# Altium schematic symbol library HydrogreenSchematicLibrary.SchLib: 60 symbols (part 1 of 4)
Pins are listed as number, name and electrical type; pins without a type are passive.

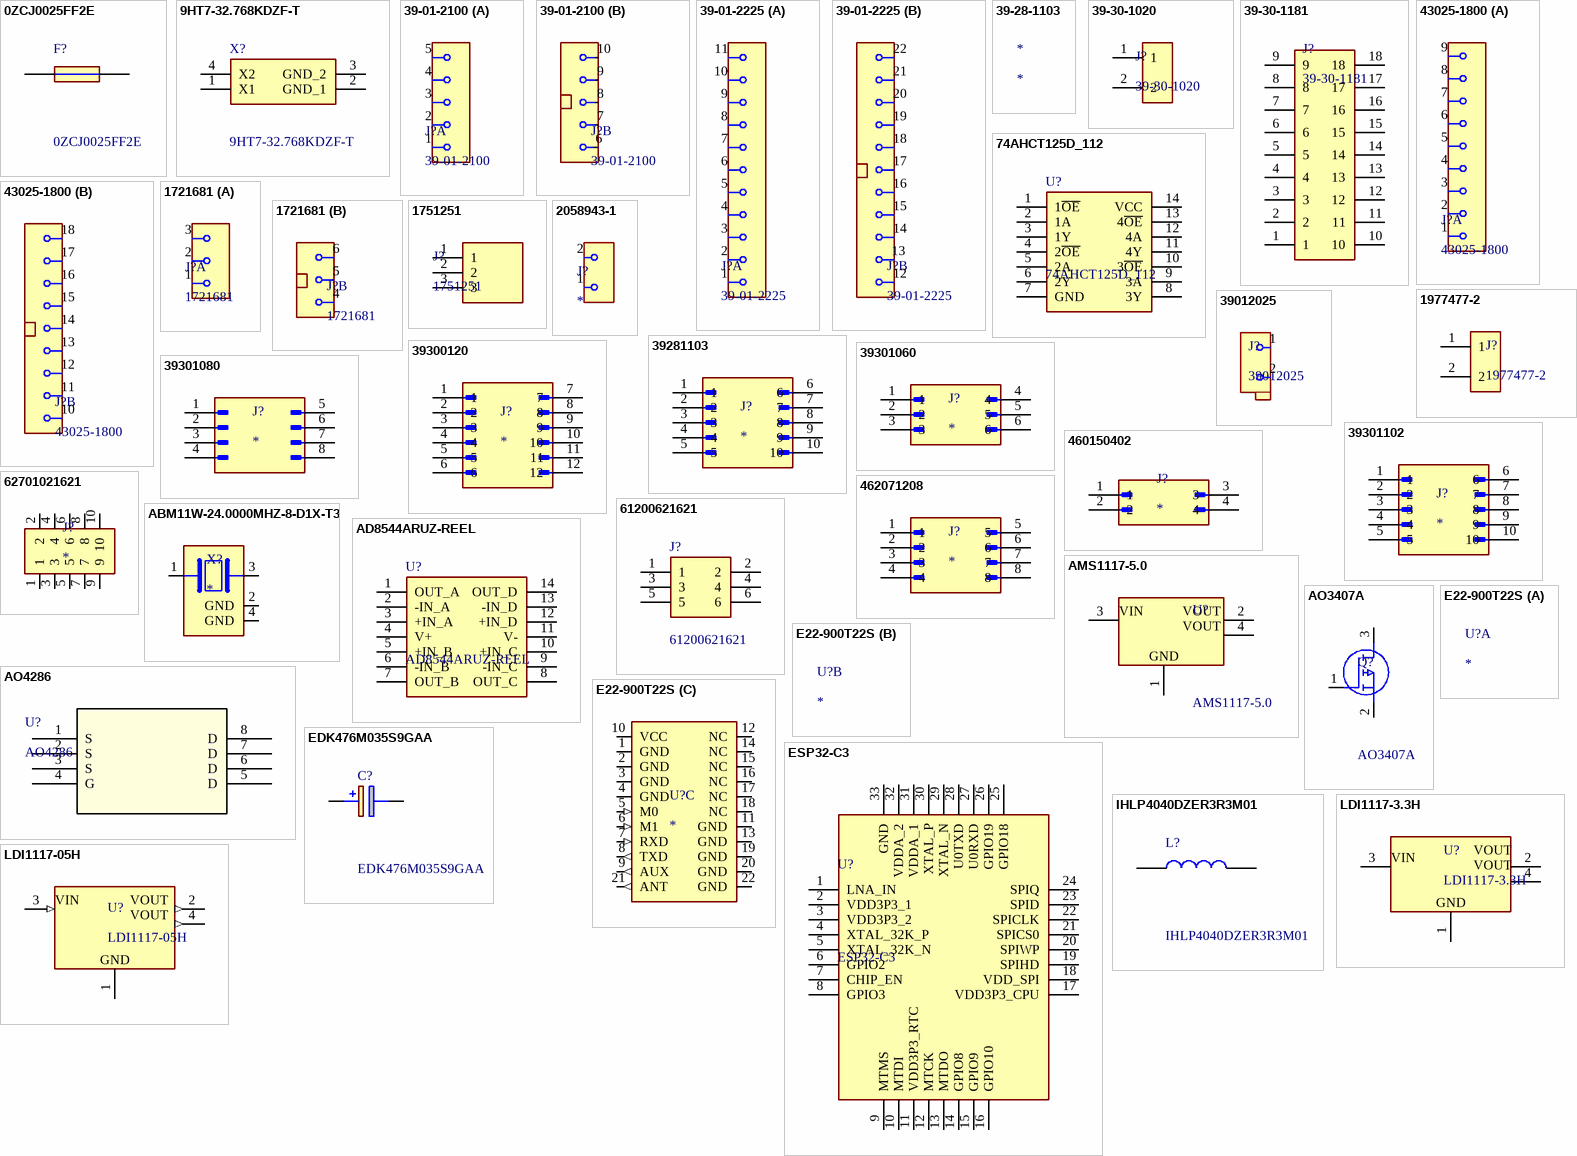
[diagram p0: symbols 0ZCJ0025FF2E to LDI1117-05H]

## 0ZCJ0025FF2E
designator F?
BEL FUSE - CIRCUIT PROTECTION - 0ZCJ0025FF2E - FUSE, RESETTABLE PTC, 16VDC, 0.25A, SMD; Manufacturer_Name: Bel Circuit Protection; Geometry.Height: 0.75mm; Mouser Part Number: *; Mouser Price/Stock: *; Manufacturer_Part_Number: 0ZCJ0025FF2E; Datasheet Link: https://componentsearchengine.com/Datasheets/2/0ZCJ0025FF2E.pdf
footprint 0ZCJ0025FF2E
pins: 1, 2

## 9HT7-32.768KDZF-T
designator X?
Parallel - Fundamental Quartz Crystal, 0.032768MHz Nom; Manufacturer_Name: TXC CORPORATION; Manufacturer: TXC; Geometry.Height: 1.4mm; ESR (Equivalent Series Resistance): 65kΩ; Frequency: 32.768kHz; Frequency Tolerance: 0.002%; Load Capacitance: 12.5pF; Manufacturer_Part_Number: 9HT7-32.768KDZF-T; Mouser Part Number: 717-9HT7-32.768KDZFT; Mouser Price/Stock: https://www.mouser.co.uk/ProductDetail/TXC-Corporation/9HT7-32.768KDZF-T?qs=MEJ8UTjcHDlobjP3Uu4Bsg%3D%3D; Arrow Part Number: 9HT7-32.768KDZF-T; Arrow Price/Stock: https://www.arrow.com/en/products/9ht7-32.768kdzf-t/txc-corporation?region=nac; Datasheet Link: https://componentsearchengine.com/Datasheets/2/9HT7-32.768KDZF-T.pdf; Supplier: Farnell; Supplier Part Number: 2819319; Manufacturer Part Number: 9HT7-32.768KDZF-T; RoHS: Compliant; Category: Crystals; Stock: 7957; Case/Package: SMD/SMT; Height: 508µm; Lead Free: Lead Free; Length: 1.4mm; Lifecycle Status: Production; Max Operating Temperature: 85°C; Min Operating Temperature: -40°C; Mounting Technology: Surface Mount; Packaging: Tape & Reel; REACH SVHC: No; Schedule B: 8541600080, 8541600080|8541600080|8541600080|8541600080|8541600080|8541600080|8541600080|8541600080|8541600080|8541600080|8541600080|8541600080|8541600080|8541600080|8541600080|8541600080|8541600080|8541600080|8541600080|8541600080|8541600080|8541600080|8541600080|85; Termination: SMD/SMT; Tolerance: 0.002%; Width: 1.397mm; ComponentLink1URL: https://datasheet.octopart.com:443/9HT7-32.768KDZF-T-TXC-datasheet-21225340.pdf?src-supplier=element14+APAC; ComponentLink1Description: https://datasheet.octopart.com:443/9HT7-32.768KDZF-T-TXC-datasheet-21225340.pdf?src-supplier=element14+APAC; ComponentLink2URL: https://datasheet.octopart.com:443/9HT7-32.768KDZF-T-TXC-datasheet-181441158.pdf?src-supplier=Newark; ComponentLink2Description: https://datasheet.octopart.com:443/9HT7-32.768KDZF-T-TXC-datasheet-181441158.pdf?src-supplier=Newark; ComponentLink3URL: https://datasheet.octopart.com:443/9HT7-32.768KDZF-T-TXC-datasheet-188932442.pdf?src-supplier=TME; ComponentLink3Description: https://datasheet.octopart.com:443/9HT7-32.768KDZF-T-TXC-datasheet-188932442.pdf?src-supplier=TME
footprint 9HT732768KDZFT
pins: 1 X1, 2 GND_1, 3 GND_2, 4 X2

## 39-01-2100
designator J?
Power Connector, 10 Contact(s), Female, Crimp Terminal, Receptacle; Manufacturer: Molex; Connector Type: Power,Rectangular; Option: General Purpose; Filter Feature: No; Throw Configuration: S0P10; Contact Resistance: 10mR; Contact Style: SQ PIN-SKT; Dielectric Withstanding Voltage (AC): 1.5kV; Insertion Force-Max: 14.6784N; Insulation Resistance: 1GR; Mating Information: MULTIPLE MATING PARTS AVAILABLE; Number Of Connectors: 1; Number of Contacts: 10; Body Breadth: 0.46inch; Body Depth: 0.77inch; Body Length: 0.874inch; Mounting Option 1: LOCKING; Reference Standard: UL; Reliability: COMMERCIAL; Supplier: Farnell; Supplier Part Number: 2751634; Manufacturer Part Number: 39-01-2100; RoHS: Yes; Category: Headers and Wire Housings; Stock: 27370; Mounting Technology: Cable; Contact Finish - Mating: NOT SPECIFIED; Insulation Material: Nylon; Insulation Color: Natural; Shell Material: POLYAMIDE66; Body/Shell Style: RECEPTACLE; Mounting Style: STRAIGHT; Contact Gender: Female; Empty Shell: No; Mixed Contacts: No; Termination: Crimp; Flammability Rating: UL94 V-2; DIN Conformance: No; IEC Conformance: No; MIL Conformance: No; Reach SVHC Compliant: Yes; RoHS Compliant: Yes; ComponentLink1URL: https://datasheet.ciiva.com:443/pdfs/VipMasterIC/IC/MOLE/MOLE-S-A0003536895/MOLE-S-A0003534376-1.pdf?src-supplier=IHS+Markit; ComponentLink1Description: https://datasheet.ciiva.com:443/pdfs/VipMasterIC/IC/MOLE/MOLE-S-A0003536895/MOLE-S-A0003534376-1.pdf?src-supplier=IHS+Markit; ComponentLink2URL: https://datasheet.ciiva.com/19473/1968566-19473030.pdf?src-supplier=Jameco; ComponentLink2Description: https://datasheet.ciiva.com/19473/1968566-19473030.pdf?src-supplier=Jameco; ComponentLink3URL: https://datasheet.ciiva.com/16127/0039012100-crimp-housings-16127171.pdf?src-supplier=Onlinecomponents.com; ComponentLink3Description: https://datasheet.ciiva.com/16127/0039012100-crimp-housings-16127171.pdf?src-supplier=Onlinecomponents.com; ComponentLink4URL: https://datasheet.ciiva.com/11740/0900766b80460d92-11740879.pdf?src-supplier=Rs; ComponentLink4Description: https://datasheet.ciiva.com/11740/0900766b80460d92-11740879.pdf?src-supplier=Rs; ComponentLink5URL: https://datasheet.ciiva.com/5150/0039012100-crimp-housings-140011-5150159.pdf?src-supplier=Mouser; ComponentLink5Description: https://datasheet.ciiva.com/5150/0039012100-crimp-housings-140011-5150159.pdf?src-supplier=Mouser; ComponentLink6URL: https://datasheet.ciiva.com/1446/1923999-1446502.pdf?src-supplier=Element14; ComponentLink6Description: https://datasheet.ciiva.com/1446/1923999-1446502.pdf?src-supplier=Element14; ComponentLink7URL: https://datasheet.ciiva.com/10392/0039012100-crimp-housings-10392202.pdf?src-supplier=Avnet; ComponentLink7Description: https://datasheet.ciiva.com/10392/0039012100-crimp-housings-10392202.pdf?src-supplier=Avnet; ComponentLink8URL: https://datasheet.ciiva.com/30093/107550039012100-crimp-housings-30093659.pdf?src-supplier=Onlinecomponents.com; ComponentLink8Description: https://datasheet.ciiva.com/30093/107550039012100-crimp-housings-30093659.pdf?src-supplier=Onlinecomponents.com; ComponentLink9URL: https://datasheet.ciiva.com/18453/70190738-18453660.pdf?src-supplier=Allied+Electronics; ComponentLink9Description: https://datasheet.ciiva.com/18453/70190738-18453660.pdf?src-supplier=Allied+Electronics
footprint 39-01-2100
part A pins: 1, 2, 3, 4, 5
part B pins: 6, 7, 8, 9, 10

## 39-01-2225
designator J?
Power Connector, 22 Contact(s), Female, Crimp Terminal, Receptacle; Manufacturer: Molex; Connector Type: Power,Rectangular; Throw Configuration: S0P22; Option: General Purpose; Contact Resistance: 10mR; Contact Style: SQ PIN-SKT; Dielectric Withstanding Voltage (AC): 1.5kV; Empty Shell: No; Insertion Force-Max: 14.6784N; Insulation Resistance: 1GR; Mating Information: MULTIPLE MATING PARTS AVAILABLE; Number Of Connectors: 1; Number of Contacts: 22; Body Breadth: 0.46inch; Body Depth: 0.77inch; Body Length: 1.866inch; Mounting Option 1: LOCKING; Reference Standard: UL; Reliability: COMMERCIAL; Supplier: Rs; Supplier Part Number: 6704562; Manufacturer Part Number: 39-01-2225; RoHS: Yes; Category: Connectors; Stock: 520; Mounting Technology: Cable; Contact Finish - Mating: NOT SPECIFIED; Insulation Color: Natural; Insulation Material: Nylon; Shell Material: POLYAMIDE66; Body/Shell Style: RECEPTACLE; Contact Gender: Female; Filter Feature: No; Mixed Contacts: No; Mounting Style: STRAIGHT; Termination: Crimp; Flammability Rating: UL94 V-0; Reach SVHC Compliant: Yes; RoHS Compliant: Yes; DIN Conformance: No; IEC Conformance: No; MIL Conformance: No; ComponentLink1URL: https://datasheet.ciiva.com:443/pdfs/VipMasterIC/IC/MOLE/MOLE-S-A0003536895/MOLE-S-A0003534376-1.pdf?src-supplier=IHS+Markit; ComponentLink1Description: https://datasheet.ciiva.com:443/pdfs/VipMasterIC/IC/MOLE/MOLE-S-A0003536895/MOLE-S-A0003534376-1.pdf?src-supplier=IHS+Markit; ComponentLink2URL: https://datasheet.ciiva.com/19473/1968662-19473339.pdf?src-supplier=Jameco; ComponentLink2Description: https://datasheet.ciiva.com/19473/1968662-19473339.pdf?src-supplier=Jameco; ComponentLink3URL: https://datasheet.ciiva.com/10401/0039012225-crimp-housings-10401042.pdf?src-supplier=Avnet; ComponentLink3Description: https://datasheet.ciiva.com/10401/0039012225-crimp-housings-10401042.pdf?src-supplier=Avnet; ComponentLink4URL: https://datasheet.ciiva.com/16127/983660039012225-crimp-housings-16127278.pdf?src-supplier=Onlinecomponents.com; ComponentLink4Description: https://datasheet.ciiva.com/16127/983660039012225-crimp-housings-16127278.pdf?src-supplier=Onlinecomponents.com; ComponentLink5URL: https://datasheet.ciiva.com/15217/getdatasheetpartid-296930-15217964.pdf?src-supplier=Verical; ComponentLink5Description: https://datasheet.ciiva.com/15217/getdatasheetpartid-296930-15217964.pdf?src-supplier=Verical
footprint 39-01-2225
part A pins: 1, 2, 3, 4, 5, 6, 7, 8, 9, 10, 11
part B pins: 12, 13, 14, 15, 16, 17, 18, 19, 20, 21, 22

## 39-28-1103
designator *
MOLEX 39-28-1103 Header 2 Row 180° w/o PCB Lock 10p 94V-2 Tin Plating w/o Drain Holes; Manufacturer Lifecycle Status: ACTIVE; Approvals: CSA, TUV, UL; Connector Type: Power, Rectangular; Contact Resistance: 10mΩ; Current Rating: 7A; Dielectric Material: Polyamide; Gender: Male; Glow Wire Compliant: Non-compliant; Insulation Resistance: 1GΩ; Max Current Rating: 3A; Max Voltage Rating (DC): 600.6kV; Number of Circuits: 8; Number of Contacts: 10; Operating Force: 6.672N; Pitch: 4.2mm; Plating Thickness: 889nm; Row Spacing: 5.5118mm; Voltage Rating: 600V; Working Voltage: 250V; Supplier: RS; Supplier Part Number: 4841928P; Manufacturer: Molex; Manufacturer Part Number: 39-28-1103; RoHS: Compliant; Category: Headers and Wire Housings; Stock: 2889; China RoHS: Compliant; Color: Natural, Clear; Contact Gender: Male; Contact Material: Brass; Contact Plating: Tin; Country of Origin: PR; Depth: 9.39mm; Flammability Rating: UL94 V-2; Halogen Free: Low Halogen; Height: 13.1mm; Housing Material: Nylon; Lead Free: Lead Free; Lead Pitch: 4.2mm; Length: 101.19mm; Lifecycle Status: Production; Max Operating Temperature: 105°C; Min Operating Temperature: -40°C; Mounting Technology: Through Hole; Pins: 10; Number of Poles: 10; Number of Positions: 10; Number of Rows: 2; Orientation: Vertical; Packaging: Bulk; Plating: Tin; Radiation Hardening: No; REACH SVHC: Yes; Schedule B: 8536694040, 8536694040|8536694040|8536694040|8536694040|8536694040; Terminal Pitch: 4.191mm; Termination: Solder; Voltage Rating (AC): 600V; Voltage Rating (DC): 600V; ComponentLink1URL: https://datasheet.octopart.com:443/0039281103-Molex-datasheet-180777537.pdf?src-supplier=IHS; ComponentLink1Description: https://datasheet.octopart.com:443/0039281103-Molex-datasheet-180777537.pdf?src-supplier=IHS; ComponentLink2URL: https://datasheet.octopart.com:443/39-28-1103-Molex-datasheet-120074126.pdf?src-supplier=IHS; ComponentLink2Description: https://datasheet.octopart.com:443/39-28-1103-Molex-datasheet-120074126.pdf?src-supplier=IHS; ComponentLink3URL: https://datasheet.octopart.com:443/39-28-1103-Molex-datasheet-11519118.pdf?src-supplier=Molex; ComponentLink3Description: https://datasheet.octopart.com:443/39-28-1103-Molex-datasheet-11519118.pdf?src-supplier=Molex; ComponentLink4URL: https://datasheet.octopart.com:443/039281103-Molex-datasheet-8335264.pdf?src-supplier=Upverter; ComponentLink4Description: https://datasheet.octopart.com:443/039281103-Molex-datasheet-8335264.pdf?src-supplier=Upverter; ComponentLink5URL: https://datasheet.octopart.com:443/39-28-1103-Molex-datasheet-13784987.pdf?src-supplier=Sager+Electronics; ComponentLink5Description: https://datasheet.octopart.com:443/39-28-1103-Molex-datasheet-13784987.pdf?src-supplier=Sager+Electronics; ComponentLink6URL: https://datasheet.octopart.com:443/39-28-1103-Molex-datasheet-154749138.pdf?src-supplier=Master+Electronics; ComponentLink6Description: https://datasheet.octopart.com:443/39-28-1103-Molex-datasheet-154749138.pdf?src-supplier=Master+Electronics; ComponentLink7URL: https://datasheet.octopart.com:443/39-28-1103-Molex-datasheet-101582338.pdf?src-supplier=Farnell; ComponentLink7Description: https://datasheet.octopart.com:443/39-28-1103-Molex-datasheet-101582338.pdf?src-supplier=Farnell; ComponentLink8URL: https://datasheet.octopart.com:443/39-28-1103-Molex-datasheet-8486522.pdf?src-supplier=Farnell; ComponentLink8Description: https://datasheet.octopart.com:443/39-28-1103-Molex-datasheet-8486522.pdf?src-supplier=Farnell; ComponentLink9URL: https://datasheet.octopart.com:443/39-28-1103-Molex-datasheet-7626255.pdf?src-supplier=Farnell; ComponentLink9Description: https://datasheet.octopart.com:443/39-28-1103-Molex-datasheet-7626255.pdf?src-supplier=Farnell; ComponentLink10URL: https://datasheet.octopart.com:443/39-28-1103-Molex-datasheet-33002772.pdf?src-supplier=Electro+Sonic; ComponentLink10Description: https://datasheet.octopart.com:443/39-28-1103-Molex-datasheet-33002772.pdf?src-supplier=Electro+Sonic; ComponentLink11URL: https://datasheet.octopart.com:443/39-28-1103-Molex-datasheet-62104106.pdf?src-supplier=Electro+Sonic; ComponentLink11Description: https://datasheet.octopart.com:443/39-28-1103-Molex-datasheet-62104106.pdf?src-supplier=Electro+Sonic; ComponentLink12URL: https://datasheet.octopart.com:443/39-28-1103-Molex-datasheet-27885732.pdf?src-supplier=Electro+Sonic; ComponentLink12Description: https://datasheet.octopart.com:443/39-28-1103-Molex-datasheet-27885732.pdf?src-supplier=Electro+Sonic; ComponentLink13URL: https://datasheet.octopart.com:443/39-28-1103-Molex-datasheet-11879267.pdf?src-supplier=Arrow+Electronics; ComponentLink13Description: https://datasheet.octopart.com:443/39-28-1103-Molex-datasheet-11879267.pdf?src-supplier=Arrow+Electronics; ComponentLink14URL: https://datasheet.octopart.com:443/39-28-1103-Molex-datasheet-140182983.pdf?src-supplier=RS+(Formerly+Allied+Electronics); ComponentLink14Description: https://datasheet.octopart.com:443/39-28-1103-Molex-datasheet-140182983.pdf?src-supplier=RS+(Formerly+Allied+Electronics); ComponentLink15URL: https://datasheet.octopart.com:443/39-28-1103-Molex-datasheet-120148484.pdf?src-supplier=RS+(Formerly+Allied+Electronics); ComponentLink15Description: https://datasheet.octopart.com:443/39-28-1103-Molex-datasheet-120148484.pdf?src-supplier=RS+(Formerly+Allied+Electronics); ComponentLink16URL: https://datasheet.octopart.com:443/39-28-1103-Molex-datasheet-27709973.pdf?src-supplier=RS+(Formerly+Allied+Electronics); ComponentLink16Description: https://datasheet.octopart.com:443/39-28-1103-Molex-datasheet-27709973.pdf?src-supplier=RS+(Formerly+Allied+Electronics); ComponentLink17URL: https://datasheet.octopart.com:443/39-28-1103-Molex-datasheet-9805467.pdf?src-supplier=RS+(Formerly+Allied+Electronics); ComponentLink17Description: https://datasheet.octopart.com:443/39-28-1103-Molex-datasheet-9805467.pdf?src-supplier=RS+(Formerly+Allied+Electronics); ComponentLink18URL: https://datasheet.octopart.com:443/39-28-1103-Molex-datasheet-82184.pdf?src-supplier=RS+(Formerly+Allied+Electronics); ComponentLink18Description: https://datasheet.octopart.com:443/39-28-1103-Molex-datasheet-82184.pdf?src-supplier=RS+(Formerly+Allied+Electronics); ComponentLink19URL: https://datasheet.octopart.com:443/39-28-1103-Molex-datasheet-156091070.pdf?src-supplier=Jameco; ComponentLink19Description: https://datasheet.octopart.com:443/39-28-1103-Molex-datasheet-156091070.pdf?src-supplier=Jameco; ComponentLink20URL: https://datasheet.octopart.com:443/39281103-Molex-datasheet-7831096.pdf?src-supplier=Jameco; ComponentLink20Description: https://datasheet.octopart.com:443/39281103-Molex-datasheet-7831096.pdf?src-supplier=Jameco; ComponentLink21URL: https://datasheet.octopart.com:443/39281103-Molex-datasheet-137316104.pdf?src-supplier=Future+Electronics; ComponentLink21Description: https://datasheet.octopart.com:443/39281103-Molex-datasheet-137316104.pdf?src-supplier=Future+Electronics; ComponentLink22URL: https://datasheet.octopart.com:443/39-28-1103-Molex-datasheet-38190430.pdf?src-supplier=Newark; ComponentLink22Description: https://datasheet.octopart.com:443/39-28-1103-Molex-datasheet-38190430.pdf?src-supplier=Newark; ComponentLink23URL: https://datasheet.octopart.com:443/39-28-1103-Molex-datasheet-21207353.pdf?src-supplier=Newark; ComponentLink23Description: https://datasheet.octopart.com:443/39-28-1103-Molex-datasheet-21207353.pdf?src-supplier=Newark; ComponentLink24URL: https://datasheet.octopart.com:443/39-28-1103-Molex-datasheet-1603.pdf?src-supplier=Newark; ComponentLink24Description: https://datasheet.octopart.com:443/39-28-1103-Molex-datasheet-1603.pdf?src-supplier=Newark; ComponentLink25URL: https://datasheet.octopart.com:443/39-28-1103-Molex-datasheet-10064021.pdf?src-supplier=element14; ComponentLink25Description: https://datasheet.octopart.com:443/39-28-1103-Molex-datasheet-10064021.pdf?src-supplier=element14; ComponentLink26URL: https://datasheet.octopart.com:443/39-28-1103-Molex-datasheet-141243.pdf?src-supplier=DigiKey; ComponentLink26Description: https://datasheet.octopart.com:443/39-28-1103-Molex-datasheet-141243.pdf?src-supplier=DigiKey; ComponentLink27URL: https://datasheet.octopart.com:443/39-28-1103-Molex-datasheet-18519.pdf?src-supplier=TME; ComponentLink27Description: https://datasheet.octopart.com:443/39-28-1103-Molex-datasheet-18519.pdf?src-supplier=TME; ComponentLink28URL: http://sigma.octopart.com:80/16310472/rohs_statement/Molex-39-28-1103.pdf?src-supplier=Compliance+Statements; ComponentLink28Description: http://sigma.octopart.com:80/16310472/rohs_statement/Molex-39-28-1103.pdf?src-supplier=Compliance+Statements; ComponentLink29URL: http://sigma.octopart.com:80/conflict_mineral_statement/Molex-company-72.pdf?src-supplier=Compliance+Statements; ComponentLink29Description: http://sigma.octopart.com:80/conflict_mineral_statement/Molex-company-72.pdf?src-supplier=Compliance+Statements; ComponentLink30URL: http://sigma.octopart.com:80/rohs_statement/Molex-company-73.pdf?src-supplier=Compliance+Statements; ComponentLink30Description: http://sigma.octopart.com:80/rohs_statement/Molex-company-73.pdf?src-supplier=Compliance+Statements; ComponentLink31URL: http://sigma.octopart.com:80/reach_statement/Molex-company-74.pdf?src-supplier=Compliance+Statements; ComponentLink31Description: http://sigma.octopart.com:80/reach_statement/Molex-company-74.pdf?src-supplier=Compliance+Statements

## 39-30-1020
designator J?
Pin Header, Power, 2 Rows, 2 Contacts, Through Hole Right Angle, Mini-Fit Jr. 5569; Manufacturer: Molex; Manufacturer Lifecycle Status: ACTIVE; Approvals: CSA, TUV, UL; Connector Type: Power, Rectangular; Contact Resistance: 10mΩ; Current Rating: 9A; Dielectric Material: Polyamide; Gender: Male; Glow Wire Compliant: Non-compliant; Insulation Resistance: 1GΩ; Number of Circuits: 2; Pitch: 4.2mm; Plating Thickness: 2.54µm; Voltage Rating: 600V; Supplier: RS; Supplier Part Number: 5109837P; Manufacturer Part Number: 39-30-1020; RoHS: Compliant; Category: Headers and Wire Housings; Stock: 13118; China RoHS: Compliant; Color: Natural; Contact Gender: Male; Contact Material: Brass; Contact Plating: Tin; Country of Origin: US; Depth: 13.38mm; ELV: Compliant; Flammability Rating: UL94 V-2; Halogen Free: Low Halogen; Height: 14.76mm; Housing Material: Nylon; Lead Free: Lead Free; Lead Pitch: 4.2mm; Length: 36.07mm; Lifecycle Status: Production; Material: Nylon; Max Operating Temperature: 105°C; Min Operating Temperature: -40°C; Mounting Technology: PCB, Through Hole; Number of Contacts: 2; Pins: 2; Number of Poles: 2; Number of Positions: 2; Number of Rows: 2; Orientation: Right Angle; Radiation Hardening: No; REACH SVHC: Yes; Row Spacing: 4.2mm; Schedule B: 8536694040, 8536694040|8536694040, 8536694040|8536694040|8536694040, 8536694040|8536694040|8536694040|8536694040; Termination: Solder; Voltage Rating (AC): 600V; Voltage Rating (DC): 600V; Working Voltage: 600V; ComponentLink1URL: https://datasheet.octopart.com:443/39-30-1020-Molex-datasheet-120074128.pdf?src-supplier=IHS; ComponentLink1Description: https://datasheet.octopart.com:443/39-30-1020-Molex-datasheet-120074128.pdf?src-supplier=IHS; ComponentLink2URL: https://datasheet.octopart.com:443/039301020-Molex-datasheet-8338717.pdf?src-supplier=Upverter; ComponentLink2Description: https://datasheet.octopart.com:443/039301020-Molex-datasheet-8338717.pdf?src-supplier=Upverter; ComponentLink3URL: https://datasheet.octopart.com:443/39-30-1020-Molex-datasheet-13785309.pdf?src-supplier=Molex; ComponentLink3Description: https://datasheet.octopart.com:443/39-30-1020-Molex-datasheet-13785309.pdf?src-supplier=Molex; ComponentLink4URL: https://sigma.octopart.com:443/15644801/technical_drawing/Molex-39-30-1020.pdf?src-supplier=Molex; ComponentLink4Description: https://sigma.octopart.com:443/15644801/technical_drawing/Molex-39-30-1020.pdf?src-supplier=Molex; ComponentLink5URL: https://datasheet.octopart.com:443/39-30-1020-Molex-datasheet-36854730.pdf?src-supplier=Farnell; ComponentLink5Description: https://datasheet.octopart.com:443/39-30-1020-Molex-datasheet-36854730.pdf?src-supplier=Farnell; ComponentLink6URL: https://datasheet.octopart.com:443/39-30-1020-Molex-datasheet-101582405.pdf?src-supplier=Farnell; ComponentLink6Description: https://datasheet.octopart.com:443/39-30-1020-Molex-datasheet-101582405.pdf?src-supplier=Farnell; ComponentLink7URL: https://datasheet.octopart.com:443/39-30-1020-..-Molex-datasheet-81470918.pdf?src-supplier=Farnell; ComponentLink7Description: https://datasheet.octopart.com:443/39-30-1020-..-Molex-datasheet-81470918.pdf?src-supplier=Farnell; ComponentLink8URL: https://datasheet.octopart.com:443/39-30-1020-Molex-datasheet-14711183.pdf?src-supplier=Farnell; ComponentLink8Description: https://datasheet.octopart.com:443/39-30-1020-Molex-datasheet-14711183.pdf?src-supplier=Farnell; ComponentLink9URL: https://datasheet.octopart.com:443/39-30-1020-Molex-datasheet-10541087.pdf?src-supplier=Farnell; ComponentLink9Description: https://datasheet.octopart.com:443/39-30-1020-Molex-datasheet-10541087.pdf?src-supplier=Farnell; ComponentLink10URL: https://datasheet.octopart.com:443/39301020-Molex-datasheet-514359.pdf?src-supplier=Farnell; ComponentLink10Description: https://datasheet.octopart.com:443/39301020-Molex-datasheet-514359.pdf?src-supplier=Farnell; ComponentLink11URL: https://datasheet.octopart.com:443/39-30-1020-Molex-datasheet-154749331.pdf?src-supplier=Master+Electronics; ComponentLink11Description: https://datasheet.octopart.com:443/39-30-1020-Molex-datasheet-154749331.pdf?src-supplier=Master+Electronics; ComponentLink12URL: https://datasheet.octopart.com:443/39-30-1020-Molex-datasheet-21827347.pdf?src-supplier=Electro+Sonic; ComponentLink12Description: https://datasheet.octopart.com:443/39-30-1020-Molex-datasheet-21827347.pdf?src-supplier=Electro+Sonic; ComponentLink13URL: https://datasheet.octopart.com:443/39-30-1020-Molex-datasheet-62104194.pdf?src-supplier=Electro+Sonic; ComponentLink13Description: https://datasheet.octopart.com:443/39-30-1020-Molex-datasheet-62104194.pdf?src-supplier=Electro+Sonic; ComponentLink14URL: https://datasheet.octopart.com:443/39-30-1020-Molex-datasheet-140183168.pdf?src-supplier=RS+(Formerly+Allied+Electronics); ComponentLink14Description: https://datasheet.octopart.com:443/39-30-1020-Molex-datasheet-140183168.pdf?src-supplier=RS+(Formerly+Allied+Electronics); ComponentLink15URL: https://datasheet.octopart.com:443/39-30-1020-Molex-datasheet-120148721.pdf?src-supplier=RS+(Formerly+Allied+Electronics); ComponentLink15Description: https://datasheet.octopart.com:443/39-30-1020-Molex-datasheet-120148721.pdf?src-supplier=RS+(Formerly+Allied+Electronics); ComponentLink16URL: https://datasheet.octopart.com:443/39-30-1020-Molex-datasheet-34442213.pdf?src-supplier=RS+(Formerly+Allied+Electronics); ComponentLink16Description: https://datasheet.octopart.com:443/39-30-1020-Molex-datasheet-34442213.pdf?src-supplier=RS+(Formerly+Allied+Electronics); ComponentLink17URL: https://datasheet.octopart.com:443/39-30-1020-Molex-datasheet-9997016.pdf?src-supplier=RS+(Formerly+Allied+Electronics); ComponentLink17Description: https://datasheet.octopart.com:443/39-30-1020-Molex-datasheet-9997016.pdf?src-supplier=RS+(Formerly+Allied+Electronics); ComponentLink18URL: https://datasheet.octopart.com:443/39-30-1020-Molex-datasheet-46140.pdf?src-supplier=RS+(Formerly+Allied+Electronics); ComponentLink18Description: https://datasheet.octopart.com:443/39-30-1020-Molex-datasheet-46140.pdf?src-supplier=RS+(Formerly+Allied+Electronics); ComponentLink19URL: https://datasheet.octopart.com:443/39301020-Molex-datasheet-82994803.pdf?src-supplier=Newark; ComponentLink19Description: https://datasheet.octopart.com:443/39301020-Molex-datasheet-82994803.pdf?src-supplier=Newark; ComponentLink20URL: https://datasheet.octopart.com:443/39-30-1020-Molex-datasheet-33002868.pdf?src-supplier=Newark; ComponentLink20Description: https://datasheet.octopart.com:443/39-30-1020-Molex-datasheet-33002868.pdf?src-supplier=Newark; ComponentLink21URL: https://datasheet.octopart.com:443/39-30-1020-Molex-datasheet-21207481.pdf?src-supplier=Newark; ComponentLink21Description: https://datasheet.octopart.com:443/39-30-1020-Molex-datasheet-21207481.pdf?src-supplier=Newark; ComponentLink22URL: https://datasheet.octopart.com:443/39-30-1020-Molex-datasheet-2405.pdf?src-supplier=Newark; ComponentLink22Description: https://datasheet.octopart.com:443/39-30-1020-Molex-datasheet-2405.pdf?src-supplier=Newark; ComponentLink23URL: https://datasheet.octopart.com:443/39301020-Molex-datasheet-137316104.pdf?src-supplier=Future+Electronics; ComponentLink23Description: https://datasheet.octopart.com:443/39301020-Molex-datasheet-137316104.pdf?src-supplier=Future+Electronics; ComponentLink24URL: https://datasheet.octopart.com:443/39-30-1020-Molex-datasheet-21395541.pdf?src-supplier=TME; ComponentLink24Description: https://datasheet.octopart.com:443/39-30-1020-Molex-datasheet-21395541.pdf?src-supplier=TME; ComponentLink25URL: https://datasheet.octopart.com:443/39301020-Molex-datasheet-7600579.pdf?src-supplier=Jameco; ComponentLink25Description: https://datasheet.octopart.com:443/39301020-Molex-datasheet-7600579.pdf?src-supplier=Jameco; ComponentLink26URL: https://datasheet.octopart.com:443/39-30-1020-Molex-datasheet-46912895.pdf?src-supplier=Jameco; ComponentLink26Description: https://datasheet.octopart.com:443/39-30-1020-Molex-datasheet-46912895.pdf?src-supplier=Jameco; ComponentLink27URL: https://datasheet.octopart.com:443/39-30-1020-Molex-datasheet-131607.pdf?src-supplier=DigiKey; ComponentLink27Description: https://datasheet.octopart.com:443/39-30-1020-Molex-datasheet-131607.pdf?src-supplier=DigiKey; ComponentLink28URL: http://sigma.octopart.com:80/15645372/rohs_certificate/Molex-39-30-1020.pdf?src-supplier=Compliance+Statements; ComponentLink28Description: http://sigma.octopart.com:80/15645372/rohs_certificate/Molex-39-30-1020.pdf?src-supplier=Compliance+Statements; ComponentLink29URL: http://sigma.octopart.com:80/conflict_mineral_statement/Molex-company-72.pdf?src-supplier=Compliance+Statements; ComponentLink29Description: http://sigma.octopart.com:80/conflict_mineral_statement/Molex-company-72.pdf?src-supplier=Compliance+Statements; ComponentLink30URL: http://sigma.octopart.com:80/rohs_statement/Molex-company-73.pdf?src-supplier=Compliance+Statements; ComponentLink30Description: http://sigma.octopart.com:80/rohs_statement/Molex-company-73.pdf?src-supplier=Compliance+Statements; ComponentLink31URL: http://sigma.octopart.com:80/reach_statement/Molex-company-74.pdf?src-supplier=Compliance+Statements; ComponentLink31Description: http://sigma.octopart.com:80/reach_statement/Molex-company-74.pdf?src-supplier=Compliance+Statements
footprint 39-30-1020 (Footprint not found)
pins: 1, 2

## 39-30-1181
designator J?
Board Connector, 18 Contact(s), Male, Solder Terminal, Plug; Manufacturer: Molex; Manufacturer Series: 5569; Connector Type: Power,Rectangular; Option: General Purpose; Board Mounting Option: SPLIT BOARD LOCK; Contact Pattern: RECTANGULAR; Contact Resistance: 10mR; Contact Style: SQ PIN-SKT; Dielectric Withstanding Voltage (AC): 1.5kV; Durability: 30Cycles; Empty Shell: No; Insertion Force-Max: 6.672N; Insulation Resistance: 1GR; Mating Information: MULTIPLE MATING PARTS AVAILABLE; Number Of Connectors: 1; Number Of PCB Rows: 2; Polarization Key: HOUSING SIDE; Rated Current (Signal): 6A; Number of Contacts: 18; Withdrawl Force-Min: 3.1136N; Body Breadth: 0.38inch; Body Depth: 0.72inch; Body Length: 1.535inch; Mating Contact Pitch: 0.165inch; Mounting Option 1: POLARIZED LCK; Mounting Option 2: LOCKING; PCB Contact Row Spacing: 5.5118mm; Plating Thickness: 30uin; Reference Standard: UL; Reliability: COMMERCIAL; Supplier: Digikey; Supplier Part Number: 23-0039301181-ND; Manufacturer Part Number: 39-30-1181; RoHS: Yes; Category: Headers and Wire Housings; Stock: 7542; Pricing: 1=5,58, 10=4,741, 100=4,0294, 500=3,7 (USD); Mounting Technology: Board; Contact Material: Brass; Contact Finish - Mating: GOLD (30) OVER NICKEL; Contact Finish - Termination: GOLD (30) OVER NICKEL; Insulation Material: Nylon; Shell Material: POLYAMIDE66; Min Operating Temperature: -40°C; Max Operating Temperature: 105°C; JESD-609 Code: e4; Body/Shell Style: PLUG; Contact Gender: Male; Filter Feature: No; Mixed Contacts: No; Mounting Style: RIGHT ANGLE; Number of Rows Loaded: 2; PCB Contact Pattern: RECTANGULAR; Termination: Solder; Terminal Length: 0.142inch; Terminal Pitch: 4.191mm; Flammability Rating: UL94 V-2; DIN Conformance: No; IEC Conformance: No; MIL Conformance: No; Reach SVHC Compliant: Yes; RoHS Compliant: Yes; ComponentLink1URL: https://datasheet.ciiva.com:443/pdfs/VipMasterIC/IC/MOLE/MOLE-S-A0003537933/MOLE-S-A0003536151-1.pdf?src-supplier=IHS+Markit; ComponentLink1Description: https://datasheet.ciiva.com:443/pdfs/VipMasterIC/IC/MOLE/MOLE-S-A0003537933/MOLE-S-A0003536151-1.pdf?src-supplier=IHS+Markit; ComponentLink2URL: https://datasheet.ciiva.com/712/039300040-sd-712048.pdf?src-supplier=Digikey; ComponentLink2Description: https://datasheet.ciiva.com/712/039300040-sd-712048.pdf?src-supplier=Digikey; ComponentLink3URL: https://datasheet.ciiva.com/16102/855130039301181-pcb-headers-16102615.pdf?src-supplier=Onlinecomponents.com; ComponentLink3Description: https://datasheet.ciiva.com/16102/855130039301181-pcb-headers-16102615.pdf?src-supplier=Onlinecomponents.com; ComponentLink4URL: https://datasheet.ciiva.com/5154/0039301181-pcb-headers-160098-5154574.pdf?src-supplier=Mouser; ComponentLink4Description: https://datasheet.ciiva.com/5154/0039301181-pcb-headers-160098-5154574.pdf?src-supplier=Mouser; ComponentLink5URL: https://datasheet.ciiva.com/11752/0900766b80d5d723-11752989.pdf?src-supplier=Rs; ComponentLink5Description: https://datasheet.ciiva.com/11752/0900766b80d5d723-11752989.pdf?src-supplier=Rs; ComponentLink6URL: https://datasheet.ciiva.com/9449/0039301181-pcb-headers-9449382.pdf?src-supplier=Avnet; ComponentLink6Description: https://datasheet.ciiva.com/9449/0039301181-pcb-headers-9449382.pdf?src-supplier=Avnet; ComponentLink7URL: https://datasheet.ciiva.com/49273/304282-49273830.pdf?src-supplier=Jameco; ComponentLink7Description: https://datasheet.ciiva.com/49273/304282-49273830.pdf?src-supplier=Jameco; Supplier 1: Digikey; Supplier Part Number 1: 23-0039301181-ND
footprint 39-30-1181
pins: 1, 2, 3, 4, 5, 6, 7, 8, 9, 10, 11, 12, 13, 14, 15, 16, 17, 18

## 74AHCT125D_112
designator U?
74AHC(T)125 - Quad buffer/line driver; 3-state@en-us; Manufacturer_Name: Nexperia; Manufacturer_Part_Number: 74AHCT125D,112; Geometry.Height: 1.75mm; Mouser Part Number: 771-AHCT125D112; Mouser Price/Stock: https://www.mouser.com/Search/Refine.aspx?Keyword=771-AHCT125D112; Arrow Part Number: 74AHCT125D,112; Arrow Price/Stock: https://www.arrow.com/en/products/74ahct125d112/nexperia?region=europe; Datasheet Link: https://assets.nexperia.com/documents/data-sheet/74AHC_AHCT125.pdf
footprint 74AHCT125D_112
pins: 1 1~{OE}, 2 1A, 3 1Y, 4 2~{OE}, 5 2A, 6 2Y, 7 GND, 8 3Y, 9 3A, 10 3~{OE}, 11 4Y, 12 4A, 13 4~{OE}, 14 VCC

## 43025-1800
designator J?
Power Connector, 18 Contact(s), 2 Row(s), Female, 0.118 inch Pitch, Crimp Terminal, Locking, Black Insulator, Receptacle; Manufacturer: Molex; Connector Type: BOARD CONNECTOR; Throw Configuration: S0P18; Option: General Purpose; Contact Resistance: 10mR; Contact Style: SQ PIN-SKT; Filter Feature: No; Insertion Force-Max: 8.0064N; Insulation Resistance: 1GR; Mating Information: MULTIPLE MATING PARTS AVAILABLE; Number Of Connectors: 1; Number of Rows Loaded: 2; Rated Current (Signal): 2.5A; Number of Contacts: 18; Withdrawl Force-Min: 3.5584N; Body Breadth: 0.326inch; Body Depth: 0.551inch; Body Length: 1.096inch; Reference Standard: UL; Reliability: COMMERCIAL; Supplier: Farnell; Supplier Part Number: 4234966; Manufacturer Part Number: 43025-1800; RoHS: Yes; Category: Card Edge Connectors; Stock: 9541; Mounting Technology: Cable; Insulation Color: Black; Insulation Material: Polyester; Min Operating Temperature: -40°C; Max Operating Temperature: 105°C; Body/Shell Style: RECEPTACLE; Contact Gender: Female; Mixed Contacts: No; Mounting Style: STRAIGHT; Termination: Crimp; Terminal Pitch: 3mm; Mounting Option 1: LOCKING; Flammability Rating: UL94 V-0; Reach SVHC Compliant: Yes; RoHS Compliant: Yes; DIN Conformance: No; IEC Conformance: No; MIL Conformance: No; ComponentLink1URL: https://datasheet.ciiva.com:443/pdfs/VipMasterIC/IC/MOLE/MOLE-E-A0003552261/MOLE-S-A0003582151-1.pdf?src-supplier=IHS+Markit; ComponentLink1Description: https://datasheet.ciiva.com:443/pdfs/VipMasterIC/IC/MOLE/MOLE-E-A0003552261/MOLE-S-A0003582151-1.pdf?src-supplier=IHS+Markit; ComponentLink2URL: https://datasheet.ciiva.com/23663/1626445-23663448.pdf?src-supplier=Newark; ComponentLink2Description: https://datasheet.ciiva.com/23663/1626445-23663448.pdf?src-supplier=Newark; ComponentLink3URL: https://datasheet.ciiva.com/11718/0900766b805d5533-11718848.pdf?src-supplier=Rs; ComponentLink3Description: https://datasheet.ciiva.com/11718/0900766b805d5533-11718848.pdf?src-supplier=Rs; ComponentLink4URL: https://datasheet.ciiva.com/16127/990440430251800-crimp-housings-16127730.pdf?src-supplier=Onlinecomponents.com; ComponentLink4Description: https://datasheet.ciiva.com/16127/990440430251800-crimp-housings-16127730.pdf?src-supplier=Onlinecomponents.com; ComponentLink5URL: https://datasheet.ciiva.com/5149/0430251800-crimp-housings-228591-5149124.pdf?src-supplier=Mouser; ComponentLink5Description: https://datasheet.ciiva.com/5149/0430251800-crimp-housings-228591-5149124.pdf?src-supplier=Mouser; ComponentLink6URL: https://datasheet.ciiva.com/14155/04402298-14155271.pdf?src-supplier=Distrelec; ComponentLink6Description: https://datasheet.ciiva.com/14155/04402298-14155271.pdf?src-supplier=Distrelec; ComponentLink7URL: https://datasheet.ciiva.com/10392/0430251800-crimp-housings-10392086.pdf?src-supplier=Avnet; ComponentLink7Description: https://datasheet.ciiva.com/10392/0430251800-crimp-housings-10392086.pdf?src-supplier=Avnet
footprint 43025-1800
part A pins: 1, 2, 3, 4, 5, 6, 7, 8, 9
part B pins: 10, 11, 12, 13, 14, 15, 16, 17, 18

## 1721681
designator J?
Power Connector, 6 Contact(s), 2 Row(s), Female; Manufacturer: TE Connectivity; Connector Type: COMBINATION LINE CONNECTOR; Option: General Purpose; Body/Shell Style: PLUG; Contact Resistance: 10mR; Contact Style: RND PIN-SKT; Dielectric Withstanding Voltage (AC): 600V; Filter Feature: No; Insulation Resistance: 100MR; Number of Contacts: 6; Throw Configuration: S0P6; Durability: 25Cycles; Insertion Force-Max: 4.17N; Mating Information: MULTIPLE MATING PARTS AVAILABLE; Number Of Connectors: 1; Withdrawl Force-Min: 0.4726N; Body Breadth: 0.465inch; Body Depth: 0.933inch; Body Length: 0.551inch; Mounting Option 1: LOCKING; Mounting Option 2: LATCH; Reference Standard: UL; Reliability: COMMERCIAL; Supplier Part Number: 1248284; Manufacturer Part Number: 1721681; Category: Power Connectors; Stock: 18585; Mounting Technology: Panel; Contact Finish - Mating: NOT SPECIFIED; Insulation Material: Nylon; Insulation Color: Natural; Shell Material: Polyamide; Min Operating Temperature: -20°C; Max Operating Temperature: 105°C; Mounting Style: STRAIGHT; Contact Gender: Male; Empty Shell: No; Mixed Contacts: No; Flammability Rating: UL94 V-0; RoHS Compliant: Yes; DIN Conformance: No; IEC Conformance: No; MIL Conformance: No; Reach SVHC Compliant: Yes; ComponentLink1URL: https://www.te.com:443/usa-en/product-172168-1.html?src-supplier=IHS+Markit; ComponentLink1Description: https://www.te.com:443/usa-en/product-172168-1.html?src-supplier=IHS+Markit; ComponentLink2URL: https://datasheet.octopart.com/172168-1-Agastat-datasheet-14717644.pdf?src-supplier=Farnell; ComponentLink2Description: https://datasheet.octopart.com/172168-1-Agastat-datasheet-14717644.pdf?src-supplier=Farnell; ComponentLink3URL: https://datasheet.octopart.com/172168-1-Tyco-Electronics-datasheet-622444.pdf?src-supplier=Future+Electronics; ComponentLink3Description: https://datasheet.octopart.com/172168-1-Tyco-Electronics-datasheet-622444.pdf?src-supplier=Future+Electronics; ComponentLink4URL: https://datasheet.octopart.com/172168-1-TE-Connectivity-datasheet-11078203.pdf?src-supplier=Newark; ComponentLink4Description: https://datasheet.octopart.com/172168-1-TE-Connectivity-datasheet-11078203.pdf?src-supplier=Newark; ComponentLink5URL: https://datasheet.octopart.com/172168-1-TE-Connectivity-datasheet-17596220.pdf?src-supplier=TME; ComponentLink5Description: https://datasheet.octopart.com/172168-1-TE-Connectivity-datasheet-17596220.pdf?src-supplier=TME; ComponentLink6URL: https://datasheet.octopart.com/172168-1-TE-Connectivity-datasheet-11077908.pdf?src-supplier=Electro+Sonic; ComponentLink6Description: https://datasheet.octopart.com/172168-1-TE-Connectivity-datasheet-11077908.pdf?src-supplier=Electro+Sonic; ComponentLink7URL: https://datasheet.octopart.com/172168-1-TE-Connectivity---AMP-datasheet-189108365.pdf?src-supplier=Master+Electronics; ComponentLink7Description: https://datasheet.octopart.com/172168-1-TE-Connectivity---AMP-datasheet-189108365.pdf?src-supplier=Master+Electronics
footprint 172168-1
part A pins: 1, 2, 3
part B pins: 4, 5, 6

## 1751251
designator J?
Barrier Strip Terminal Block, 10A, 1mm2, 1 Row(s), 1 Deck(s); Manufacturer: Phoenix Contact; Fastening Method: SCREW; Number of Decks: 1; Number of Ways: 3; Voltage Rating: 160V; Wire/Cable Gauge: 16AWG; Safety Approval: UL; Supplier: Rs; Supplier Part Number: 8024843; Manufacturer Part Number: 1751251; RoHS: Yes; Category: Terminal Blocks; Stock: 716; Mounting Technology: Board; Number of Rows: 1; Current Rating: 10A; Terminal and Terminal Block Type: BARRIER STRIP TERMINAL BLOCK; Wire Cross Section: 1mm2; RoHS Compliant: Yes; Reach SVHC Compliant: Yes; ComponentLink1URL: https://www.phoenixcontact.com:443/online/portal/us?uri=pxc-oc-itemdetail%3apid%3d1751251&library=usen&pcck=P-11-01-05&tab=1&src-supplier=IHS+Markit; ComponentLink1Description: https://www.phoenixcontact.com:443/online/portal/us?uri=pxc-oc-itemdetail%3apid%3d1751251&library=usen&pcck=P-11-01-05&tab=1&src-supplier=IHS+Markit; ComponentLink2URL: https://datasheet.ciiva.com/16046/1751251-16046279.pdf?src-supplier=Onlinecomponents.com; ComponentLink2Description: https://datasheet.ciiva.com/16046/1751251-16046279.pdf?src-supplier=Onlinecomponents.com; ComponentLink3URL: https://datasheet.ciiva.com/6745/1751251-6745524.pdf?src-supplier=Digikey; ComponentLink3Description: https://datasheet.ciiva.com/6745/1751251-6745524.pdf?src-supplier=Digikey; ComponentLink4URL: https://datasheet.ciiva.com/29226/774163-da-01-en-printklemme-1751251-250-st-29226773.pdf?src-supplier=Conrad; ComponentLink4Description: https://datasheet.ciiva.com/29226/774163-da-01-en-printklemme-1751251-250-st-29226773.pdf?src-supplier=Conrad
footprint 1751251
pins: 1, 2, 3

## 1977477-2
designator J?
Barrier Screw Terminal Block; Manufacturer: TE Connectivity; Supplier: Farnell; Supplier Part Number: 4427801; Manufacturer Part Number: 1977477-2; RoHS: Yes; Category: Terminal Blocks; Stock: 392; Manufacturer Series: 1977477; Terminal and Terminal Block Type: BARRIER STRIP TERMINAL BLOCK; Reach SVHC Compliant: Yes; RoHS Compliant: Yes; ComponentLink1URL: https://www.te.com:443/usa-en/product-1977477-2.html?src-supplier=IHS+Markit; ComponentLink1Description: https://www.te.com:443/usa-en/product-1977477-2.html?src-supplier=IHS+Markit; ComponentLink2URL: https://datasheet.ciiva.com/776/eng-cd-1977477-b1-776573.pdf?src-supplier=Digikey; ComponentLink2Description: https://datasheet.ciiva.com/776/eng-cd-1977477-b1-776573.pdf?src-supplier=Digikey
footprint 19774772
pins: 1, 2

## 2058943-1
designator J?
TE Connectivity 2058943-1 MINI CT Lighting Connector Female Shrouded 2 Positions; Manufacturer Lifecycle Status: ACTIVE; Approvals: UL; Cable Length: 158.8mm; Connector Pitch: 1.4986mm; Connector Type: Socket; Connector Type A: Receptacle, Socket; Connector Type B: Free Ends; Contact Current Rating: 3A; Dielectric Material: Polyamide; Insulation Diameter: 1.03mm; Keyed: No; Number of Conductors: 2; Number of Ports: 1; Operating Supply Voltage: 70V; Preloaded: Yes; Wire/Cable Color: Black; Wire/Cable Diameter: 1.1176mm; Wire/Cable Gauge: 24AWG; Wire/Cable Type: Discrete; Wire Gauge (Min): 28AWG; Supplier: RS; Supplier Part Number: 1640975; Manufacturer: TE Connectivity; Manufacturer Part Number: 2058943-1; RoHS: Compliant; Category: Card Edge Connectors; Stock: 3335; China RoHS: Compliant; Color: Black, Red; Contact Gender: Female; Contact Plating: Tin; Current Rating: 3A; ELV: Compliant; Flammability Rating: UL94 V-0; Housing Color: White; Housing Material: Nylon; Lead Free: Lead Free; Length: 158.8008mm; Lifecycle Status: Production; Max Operating Temperature: 105°C; Min Operating Temperature: -40°C; Number of Contacts: 2; Pins: 2; Number of Positions: 2; Number of Rows: 1; Pitch: 1.4986mm; Radiation Hardening: No; REACH SVHC: Yes; Schedule B: 8544420000; Shielding: No; Termination: Crimp; Voltage Rating: 70V; Voltage Rating (AC): 70V; Wire Gauge (Max): 24AWG; ComponentLink1URL: https://datasheet.octopart.com:443/2058943-1-TE-Connectivity-datasheet-189095348.pdf?src-supplier=Master+Electronics; ComponentLink1Description: https://datasheet.octopart.com:443/2058943-1-TE-Connectivity-datasheet-189095348.pdf?src-supplier=Master+Electronics; ComponentLink2URL: https://datasheet.octopart.com:443/2058943-1-TE-Connectivity-datasheet-11097434.pdf?src-supplier=JRH+Electronics; ComponentLink2Description: https://datasheet.octopart.com:443/2058943-1-TE-Connectivity-datasheet-11097434.pdf?src-supplier=JRH+Electronics; ComponentLink3URL: https://datasheet.octopart.com:443/2058943-1-TE-Connectivity-datasheet-180014951.pdf?src-supplier=IHS; ComponentLink3Description: https://datasheet.octopart.com:443/2058943-1-TE-Connectivity-datasheet-180014951.pdf?src-supplier=IHS; ComponentLink4URL: https://datasheet.octopart.com:443/2058943-1-TE-Connectivity-datasheet-180014952.pdf?src-supplier=IHS; ComponentLink4Description: https://datasheet.octopart.com:443/2058943-1-TE-Connectivity-datasheet-180014952.pdf?src-supplier=IHS; ComponentLink5URL: https://sigma.octopart.com:443/136663159/technical_drawing/TE-Connectivity-2058943-1.pdf?src-supplier=Sager+Electronics; ComponentLink5Description: https://sigma.octopart.com:443/136663159/technical_drawing/TE-Connectivity-2058943-1.pdf?src-supplier=Sager+Electronics; ComponentLink6URL: https://datasheet.octopart.com:443/2058943-1-TE-Connectivity-datasheet-17728383.pdf?src-supplier=Newark; ComponentLink6Description: https://datasheet.octopart.com:443/2058943-1-TE-Connectivity-datasheet-17728383.pdf?src-supplier=Newark; ComponentLink7URL: https://sigma.octopart.com:443/15009531/technical_drawing/TE-Connectivity-2058943-1.pdf?src-supplier=TE+Connectivity; ComponentLink7Description: https://sigma.octopart.com:443/15009531/technical_drawing/TE-Connectivity-2058943-1.pdf?src-supplier=TE+Connectivity; ComponentLink8URL: https://datasheet.octopart.com:443/2058943-1-Tyco-Electronics-datasheet-10369055.pdf?src-supplier=Future+Electronics; ComponentLink8Description: https://datasheet.octopart.com:443/2058943-1-Tyco-Electronics-datasheet-10369055.pdf?src-supplier=Future+Electronics; ComponentLink9URL: https://datasheet.octopart.com:443/2058943-1-TE-Connectivity-datasheet-22123527.pdf?src-supplier=Future+Electronics; ComponentLink9Description: https://datasheet.octopart.com:443/2058943-1-TE-Connectivity-datasheet-22123527.pdf?src-supplier=Future+Electronics; ComponentLink10URL: https://datasheet.octopart.com:443/2058943-1-TE-Connectivity-datasheet-178034689.pdf?src-supplier=Burklin+Elektronik; ComponentLink10Description: https://datasheet.octopart.com:443/2058943-1-TE-Connectivity-datasheet-178034689.pdf?src-supplier=Burklin+Elektronik; ComponentLink11URL: https://datasheet.octopart.com:443/2058943-1-Tyco-Electronics-datasheet-8433901.pdf?src-supplier=Farnell; ComponentLink11Description: https://datasheet.octopart.com:443/2058943-1-Tyco-Electronics-datasheet-8433901.pdf?src-supplier=Farnell; ComponentLink12URL: https://datasheet.octopart.com:443/2058943-1-Tyco-Electronics-datasheet-8433865.pdf?src-supplier=Farnell; ComponentLink12Description: https://datasheet.octopart.com:443/2058943-1-Tyco-Electronics-datasheet-8433865.pdf?src-supplier=Farnell; ComponentLink13URL: http://sigma.octopart.com:80/62114439/materials_sheet/TE-Connectivity-2058943-1.pdf?src-supplier=Compliance+Statements; ComponentLink13Description: http://sigma.octopart.com:80/62114439/materials_sheet/TE-Connectivity-2058943-1.pdf?src-supplier=Compliance+Statements; ComponentLink14URL: http://sigma.octopart.com:80/15009530/rohs_certificate/Agastat-2058943-1.pdf?src-supplier=Compliance+Statements; ComponentLink14Description: http://sigma.octopart.com:80/15009530/rohs_certificate/Agastat-2058943-1.pdf?src-supplier=Compliance+Statements
footprint 2058943-1
pins: 1, 2

## 39012025
designator J?  (graphical)
Molex Connector 2x1 (bump form snap side); Supplier: Rs; Supplier Part Number: 6795763P; Manufacturer: Molex; Manufacturer Part Number: 39012025; RoHS: No; Stock: 32920; ComponentLink1URL: https://datasheet.octopart.com/39-01-2025-Molex-datasheet-10054641.pdf?src-supplier=TME; ComponentLink1Description: https://datasheet.octopart.com/39-01-2025-Molex-datasheet-10054641.pdf?src-supplier=TME
footprint 39012025
pins: 1, 2

## 39281103
designator J?
Connector Header Through Hole 10 position 0.165in (4.20mm); MP: 39281103; Value: *; Package: None; Price: None; Availability: Unavailable
footprint 39281103
pins: 1, 2, 3, 4, 5, 6, 7, 8, 9, 10